# Altium footprint library CK.PcbLib: 3 footprints
Each footprint in its own frame and in the unit in brackets; x right, y up, seen from the top. Pads: shape width x height; smd on the part's side, far side on the other; paste and mask are expansions set on the pad; w line width, h text height; cw(c..) or ccw(c..) is an arc to the next point about the centre after c.
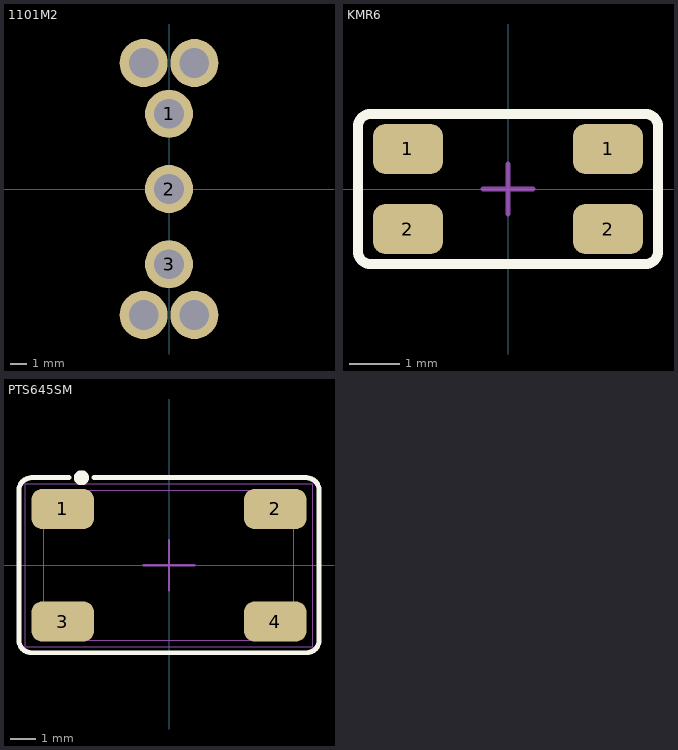
[diagram p0: the footprints below, top view; thin cyan lines are the x and y axes]

## 1101M2 [mm] "Slide Switch, 3 Pins, 2 Positions"
height 14
pads (7):
  round 3 hole 1.85: 1(0,4.7) 2(0,0) 3(0,-4.7) ""(-1.59,-7.875) ""(-1.59,7.875) ""(1.59,-7.875) ""(1.59,7.875)
Mechanical 15:
  lines w0.1: -1,0 0.75,0 ; 0,-0.75 0,0.75
3D body "c-1-1571988-0-a-3d.stp": height 25.15, standoff -4.66, extent -4.625,-8.22 4.645,8.17

## KMR6 [mm] "Tactile Switch, SMT"
pads (4):
  rrect50% 1.4x1 smd: 1(-2,0.8) 1(2,0.8) 2(-2,-0.8) 2(2,-0.8)
Top Overlay:
  lines w0.2: -3,-1.25 ccw(c-2.75,-1.25) -2.75,-1.5 2.75,-1.5 ccw(c2.75,-1.25) 3,-1.25 3,1.25 ccw(c2.75,1.25) 2.75,1.5 -2.75,1.5 ccw(c-2.75,1.25) -3,1.25 -3,0 -3,-1.25
Mechanical 15:
  lines w0.1: -0.5,0 0.5,0 ; 0,-0.5 0,0.5
3D body "KMR4.STEP": height 1.9, standoff 0, extent -2.3,-1.4 2.3,1.4

## PTS645SM [mm] "Tactile Switch, SMT"
pads (4):
  rrect50% 2.5x1.6 smd: 1(-4.25,2.25) 2(4.25,2.25) 3(-4.25,-2.25) 4(4.25,-2.25)
Top Overlay:
  circle w0.4: c-3.5,3.5 r0.1
  lines w0.2: -4,3.5 -5.25,3.5 -5.5,3.5 ccw(c-5.5,3) -6,3 -6,-2.75 -6,-3 ccw(c-5.5,-3) -5.5,-3.5 5.25,-3.5 5.5,-3.5 ccw(c5.5,-3) 6,-3 6,2.75 6,3 ccw(c5.5,3) 5.5,3.5 -3,3.5
Mechanical 13:
  lines w0.05: -5,-3 5,-3 5,3 -5,3 -5,-3
Mechanical 15:
  lines w0.05: -5.75,-3.25 5.75,-3.25 5.75,3.25 -5.75,3.25 -5.75,-3.25
  lines w0.1: -1,0 1,0 ; 0,-1 0,1
3D body "c-4-1437565-2-s-3d.stp": height 5.1, standoff 0.02, extent -5,-3 5,3